# Altium footprint library 690357282676.PcbLib: 1 footprints
Each footprint in its own frame and in the unit in brackets; x right, y up, seen from the top. Pads: shape width x height; smd on the part's side, far side on the other; paste and mask are expansions set on the pad; w line width, h text height; cw(c..) or ccw(c..) is an arc to the next point about the centre after c.
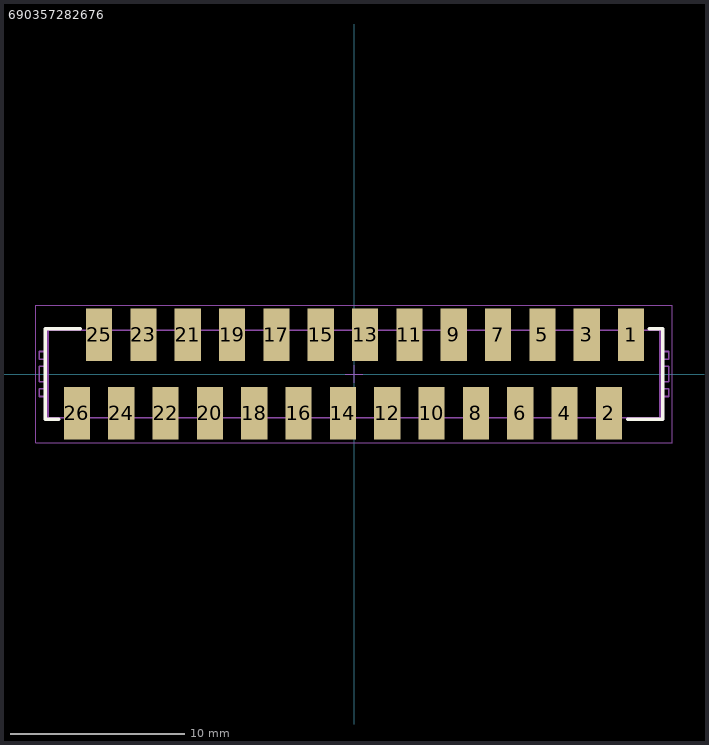
[diagram p0: the footprint, top view; thin cyan lines are the x and y axes]

## 690357282676 [mm]
pads (26):
  rect 1.5x3 smd: 1(15.875,2.25) 2(14.605,-2.25) 3(13.335,2.25) 4(12.065,-2.25) 5(10.795,2.25) 6(9.525,-2.25) 7(8.255,2.25) 8(6.985,-2.25) 9(5.715,2.25) 10(4.445,-2.25) 11(3.175,2.25) 12(1.905,-2.25) 13(0.635,2.25) 14(-0.635,-2.25) 15(-1.905,2.25) 16(-3.175,-2.25) 17(-4.445,2.25) 18(-5.715,-2.25) 19(-6.985,2.25) 20(-8.255,-2.25) 21(-9.525,2.25) 22(-10.795,-2.25) 23(-12.065,2.25) 24(-13.335,-2.25) 25(-14.605,2.25) 26(-15.875,-2.25)
Top Overlay:
  lines w0.2: -16.92,-2.6 -17.675,-2.6 -17.675,2.6 -15.67,2.6 ; 15.67,-2.6 17.675,-2.6 17.675,2.6 16.92,2.6
Top Designator:
  text ".Designator" at -7.498,-0.5 h1.5
Top Component Outline:
  lines w0.1: -17.525,-1.29 -18.025,-1.29 -18.025,-0.85 -17.525,-0.85 ; -17.525,-0.45 -18.025,-0.45 -18.025,0.45 -17.525,0.45 ; -17.525,0.85 -18.025,0.85 -18.025,1.29 -17.525,1.29 ; -16.125,-2.5 -16.125,-3.25 -15.625,-3.25 -15.625,-2.5 ; -14.855,2.5 -14.855,3.25 -14.355,3.25 -14.355,2.5 ; -13.585,-2.5 -13.585,-3.25 -13.085,-3.25 -13.085,-2.5 ; -12.315,2.5 -12.315,3.25 -11.815,3.25 -11.815,2.5 ; -11.045,-2.5 -11.045,-3.25 -10.545,-3.25 -10.545,-2.5 ; -9.775,2.5 -9.775,3.25 -9.275,3.25 -9.275,2.5 ; -8.505,-2.5 -8.505,-3.25 -8.005,-3.25 -8.005,-2.5 ; -7.235,2.5 -7.235,3.25 -6.735,3.25 -6.735,2.5 ; -5.965,-2.5 -5.965,-3.25 -5.465,-3.25 -5.465,-2.5 ; -4.695,2.5 -4.695,3.25 -4.195,3.25 -4.195,2.5 ; -3.425,-2.5 -3.425,-3.25 -2.925,-3.25 -2.925,-2.5 ; -2.155,2.5 -2.155,3.25 -1.655,3.25 -1.655,2.5 ; -0.885,-2.5 -0.885,-3.25 -0.385,-3.25 -0.385,-2.5 ; 0.385,2.5 0.385,3.25 0.885,3.25 0.885,2.5 ; 1.655,-2.5 1.655,-3.25 2.155,-3.25 2.155,-2.5 ; 2.925,2.5 2.925,3.25 3.425,3.25 3.425,2.5 ; 4.195,-2.5 4.195,-3.25 4.695,-3.25 4.695,-2.5 ; 5.465,2.5 5.465,3.25 5.965,3.25 5.965,2.5 ; 6.735,-2.5 6.735,-3.25 7.235,-3.25 7.235,-2.5 ; 8.005,2.5 8.005,3.25 8.505,3.25 8.505,2.5 ; 9.275,-2.5 9.275,-3.25 9.775,-3.25 9.775,-2.5 ; 10.545,2.5 10.545,3.25 11.045,3.25 11.045,2.5 ; 11.815,-2.5 11.815,-3.25 12.315,-3.25 12.315,-2.5 ; 13.085,2.5 13.085,3.25 13.585,3.25 13.585,2.5 ; 14.355,-2.5 14.355,-3.25 14.855,-3.25 14.855,-2.5 ; 15.625,2.5 15.625,3.25 16.125,3.25 16.125,2.5 ; 17.525,-1.29 18.025,-1.29 18.025,-0.85 17.525,-0.85 ; 17.525,-0.45 18.025,-0.45 18.025,0.45 17.525,0.45 ; 17.525,0.85 18.025,0.85 18.025,1.29 17.525,1.29 ; -17.525,-2.5 17.525,-2.5 ; -17.525,-2.5 17.525,-2.5 ; -17.525,-2.5 -17.525,2.5 17.525,2.5 17.525,-2.5
Top 3D Body:
  lines w0.1: -17.525,-1.29 -18.025,-1.29 -18.025,-0.85 -17.525,-0.85 ; -17.525,-0.45 -18.025,-0.45 -18.025,0.45 -17.525,0.45 ; -17.525,0.85 -18.025,0.85 -18.025,1.29 -17.525,1.29 ; -16.125,-2.5 -16.125,-3.25 -15.625,-3.25 -15.625,-2.5 ; -14.855,2.5 -14.855,3.25 -14.355,3.25 -14.355,2.5 ; -13.585,-2.5 -13.585,-3.25 -13.085,-3.25 -13.085,-2.5 ; -12.315,2.5 -12.315,3.25 -11.815,3.25 -11.815,2.5 ; -11.045,-2.5 -11.045,-3.25 -10.545,-3.25 -10.545,-2.5 ; -9.775,2.5 -9.775,3.25 -9.275,3.25 -9.275,2.5 ; -8.505,-2.5 -8.505,-3.25 -8.005,-3.25 -8.005,-2.5 ; -7.235,2.5 -7.235,3.25 -6.735,3.25 -6.735,2.5 ; -5.965,-2.5 -5.965,-3.25 -5.465,-3.25 -5.465,-2.5 ; -4.695,2.5 -4.695,3.25 -4.195,3.25 -4.195,2.5 ; -3.425,-2.5 -3.425,-3.25 -2.925,-3.25 -2.925,-2.5 ; -2.155,2.5 -2.155,3.25 -1.655,3.25 -1.655,2.5 ; -0.885,-2.5 -0.885,-3.25 -0.385,-3.25 -0.385,-2.5 ; 0.385,2.5 0.385,3.25 0.885,3.25 0.885,2.5 ; 1.655,-2.5 1.655,-3.25 2.155,-3.25 2.155,-2.5 ; 2.925,2.5 2.925,3.25 3.425,3.25 3.425,2.5 ; 4.195,-2.5 4.195,-3.25 4.695,-3.25 4.695,-2.5 ; 5.465,2.5 5.465,3.25 5.965,3.25 5.965,2.5 ; 6.735,-2.5 6.735,-3.25 7.235,-3.25 7.235,-2.5 ; 8.005,2.5 8.005,3.25 8.505,3.25 8.505,2.5 ; 9.275,-2.5 9.275,-3.25 9.775,-3.25 9.775,-2.5 ; 10.545,2.5 10.545,3.25 11.045,3.25 11.045,2.5 ; 11.815,-2.5 11.815,-3.25 12.315,-3.25 12.315,-2.5 ; 13.085,2.5 13.085,3.25 13.585,3.25 13.585,2.5 ; 14.355,-2.5 14.355,-3.25 14.855,-3.25 14.855,-2.5 ; 15.625,2.5 15.625,3.25 16.125,3.25 16.125,2.5 ; 17.525,-1.29 18.025,-1.29 18.025,-0.85 17.525,-0.85 ; 17.525,-0.45 18.025,-0.45 18.025,0.45 17.525,0.45 ; 17.525,0.85 18.025,0.85 18.025,1.29 17.525,1.29 ; -17.525,-2.5 -17.525,2.5 17.525,2.5 17.525,-2.5 ; -17.525,-2.5 17.525,-2.5 ; -17.525,-2.5 17.525,-2.5
Top Courtyard:
  lines w0.05: -0.5,0 0.5,0 ; 0,-0.5 0,0.5 ; -18.225,-3.95 18.225,-3.95 18.225,3.95 -18.225,3.95 -18.225,-3.95
3D body "690357282676.stp": height 5.16, standoff 0.01, extent -18.025,-3.25 18.025,3.25